# EAGLE library part MSP430G2132 (library LED-Project)
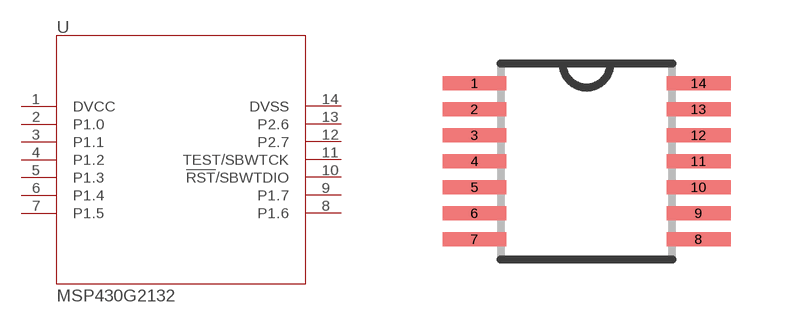
[diagram p1: symbol with the pads of TSSOP14; footprint TSSOP14]

Designator prefix U

## MSP430G2132  [TSSOP14]
1  DVCC
2  P1.0
3  P1.1
4  P1.2
5  P1.3
6  P1.4
7  P1.5
8  P1.6
9  P1.7
10  !RST!/SBWTDIO
11  TEST/SBWTCK
12  P2.7
13  P2.6
14  DVSS

## Footprint TSSOP14 (pad centres in mm)
14-Lead Thin Shrink Small Outline Package [TSSOP] Source: Analog Devices .. 780914713ADD8704_0.pdf
smd 1.6 x 0.35: 1 -2.8,1.95; 2 -2.8,1.3; 3 -2.8,0.65; 4 -2.8,0; 5 -2.8,-0.65; 6 -2.8,-1.3; 7 -2.8,-1.95; 8 2.8,-1.95; 9 2.8,-1.3; 10 2.8,-0.65; 11 2.8,0; 12 2.8,0.65; 13 2.8,1.3; 14 2.8,1.95